# EAGLE library part BC847BPN (library LARS_409_TRANSISTORS)
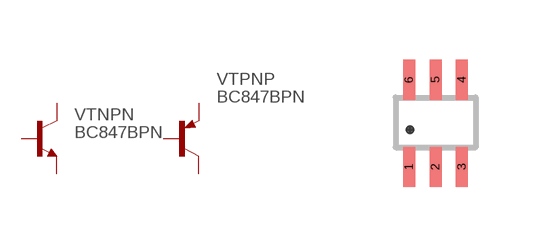
[diagram p1: symbol with the pads of SOT−363; footprint SOT−363]

Designator prefix VT; gates NPN=NPN PNP=PNP

## BC847BPN  [SOT−363]
1  NPN:E  pas
2  NPN:B  pas
3  PNP:C  pas
4  PNP:E  pas
5  PNP:B  pas
6  NPN:C  pas

## Footprint SOT−363 (pad centres in mm)
smd 0.3 x 1: 1 -0.66,-1.09; 2 0,-1.09; 3 0.66,-1.09; 4 0.66,1.09; 5 0,1.09; 6 -0.66,1.09